# EAGLE library part ST72F63BK6M1 (library ST Microelectronics)
Low speed USB 8-bit MCU
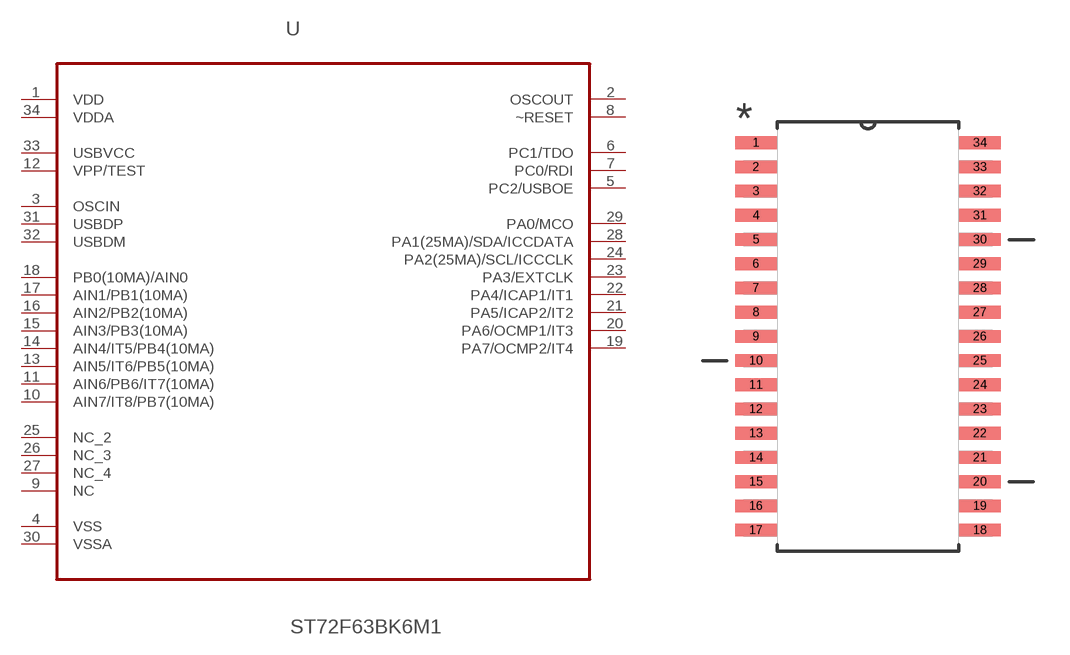
[diagram p312: symbol with the pads of SOIC101P1028X264-34N; footprint SOIC101P1028X264-34N]

Designator prefix U

## ST72F63BK6M1 (MPN: ST72F63BK6M1; OC_FARNELL: 1796097; OC_NEWARK: 57P3391; PACKAGE: SOIC-34; SUPPLIER: STMICROELECTRONICS)  [SOIC101P1028X264-34N]
1  VDD  pwr
2  OSCOUT  out
3  OSCIN  in
4  VSS  pas
5  PC2/USBOE
6  PC1/TDO
7  PC0/RDI
8  ~RESET
9  NC  nc
10  AIN7/IT8/PB7(10MA)
11  AIN6/PB6/IT7(10MA)
12  VPP/TEST  pwr
13  AIN5/IT6/PB5(10MA)
14  AIN4/IT5/PB4(10MA)
15  AIN3/PB3(10MA)
16  AIN2/PB2(10MA)
17  AIN1/PB1(10MA)
18  PB0(10MA)/AIN0
19  PA7/OCMP2/IT4
20  PA6/OCMP1/IT3
21  PA5/ICAP2/IT2
22  PA4/ICAP1/IT1
23  PA3/EXTCLK
24  PA2(25MA)/SCL/ICCCLK
25  NC_2  nc
26  NC_3  nc
27  NC_4  nc
28  PA1(25MA)/SDA/ICCDATA
29  PA0/MCO
30  VSSA  pas
31  USBDP
32  USBDM
33  USBVCC  pwr
34  VDDA  pwr

## Footprint SOIC101P1028X264-34N (pad centres in mm)
smd 1.727 x 0.533: 1 -4.699,8.128; 2 -4.699,7.112; 3 -4.699,6.096; 4 -4.699,5.08; 5 -4.699,4.064; 6 -4.699,3.048; 7 -4.699,2.032; 8 -4.699,1.016; 9 -4.699,0; 10 -4.699,-1.016; 11 -4.699,-2.032; 12 -4.699,-3.048; 13 -4.699,-4.064; 14 -4.699,-5.08; 15 -4.699,-6.096; 16 -4.699,-7.112; 17 -4.699,-8.128; 18 4.699,-8.128; 19 4.699,-7.112; 20 4.699,-6.096; 21 4.699,-5.08; 22 4.699,-4.064; 23 4.699,-3.048; 24 4.699,-2.032; 25 4.699,-1.016; 26 4.699,0; 27 4.699,1.016; 28 4.699,2.032; 29 4.699,3.048; 30 4.699,4.064; 31 4.699,5.08; 32 4.699,6.096; 33 4.699,7.112; 34 4.699,8.128